# Altium schematic symbol library ADXL345.SchLib: 1 symbol
Pins are listed as number, name and electrical type; pins without a type are passive.

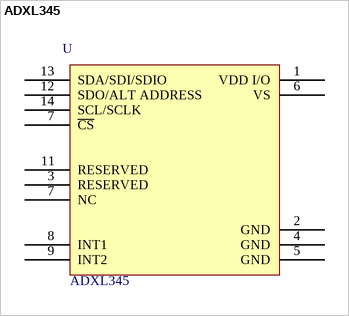
[diagram p0: symbol ADXL345]

## ADXL345
designator U  value ADXL345  (hidden comment: *)
Manufacturer Code: ADXL345BCCZ; Manufacturer: ANALOG DEVICES; Unit Price: 6,24 €; Farnell Code: 1853935
footprint LGA-14
pins: 1 VDD I/O, 2 GND, 3 RESERVED, 4 GND, 5 GND, 6 VS, 7 ~{CS}, 7 NC, 8 INT1, 9 INT2, 11 RESERVED, 12 SDO/ALT ADDRESS, 13 SDA/SDI/SDIO, 14 SCL/SCLK